# Altium schematic symbol library UM6K34NTCN.SchLib: 1 symbol
Pins are listed as number, name and electrical type; pins without a type are passive.

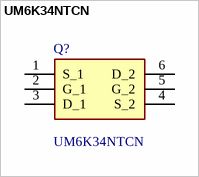
[diagram p0: symbol UM6K34NTCN]

## UM6K34NTCN
designator Q?
0.9V Drive Nch+Nch MOSFET; Manufacturer_Name: ROHM Semiconductor; Geometry.Height: 1mm; Manufacturer_Part_Number: UM6K34NTCN; Mouser Part Number: 755-UM6K34NTCN; Mouser Price/Stock: https://www.mouser.co.uk/ProductDetail/ROHM-Semiconductor/UM6K34NTCN?qs=npTsUczJOtMIn9jsho046Q%3D%3D; Arrow Part Number: *; Arrow Price/Stock: *; Datasheet Link: https://fscdn.rohm.com/en/products/databook/datasheet/discrete/transistor/mosfet/um6k34ntcn-e.pdf
footprint SOT65P210X100-6N
pins: 1 S_1, 2 G_1, 3 D_1, 4 S_2, 5 G_2, 6 D_2